# Altium footprint library ThroHole.PcbLib: 56 footprints (part 3 of 4)
Each footprint in its own frame and in the unit in brackets; x right, y up, seen from the top. Pads: shape width x height; smd on the part's side, far side on the other; paste and mask are expansions set on the pad; w line width, h text height; cw(c..) or ccw(c..) is an arc to the next point about the centre after c.
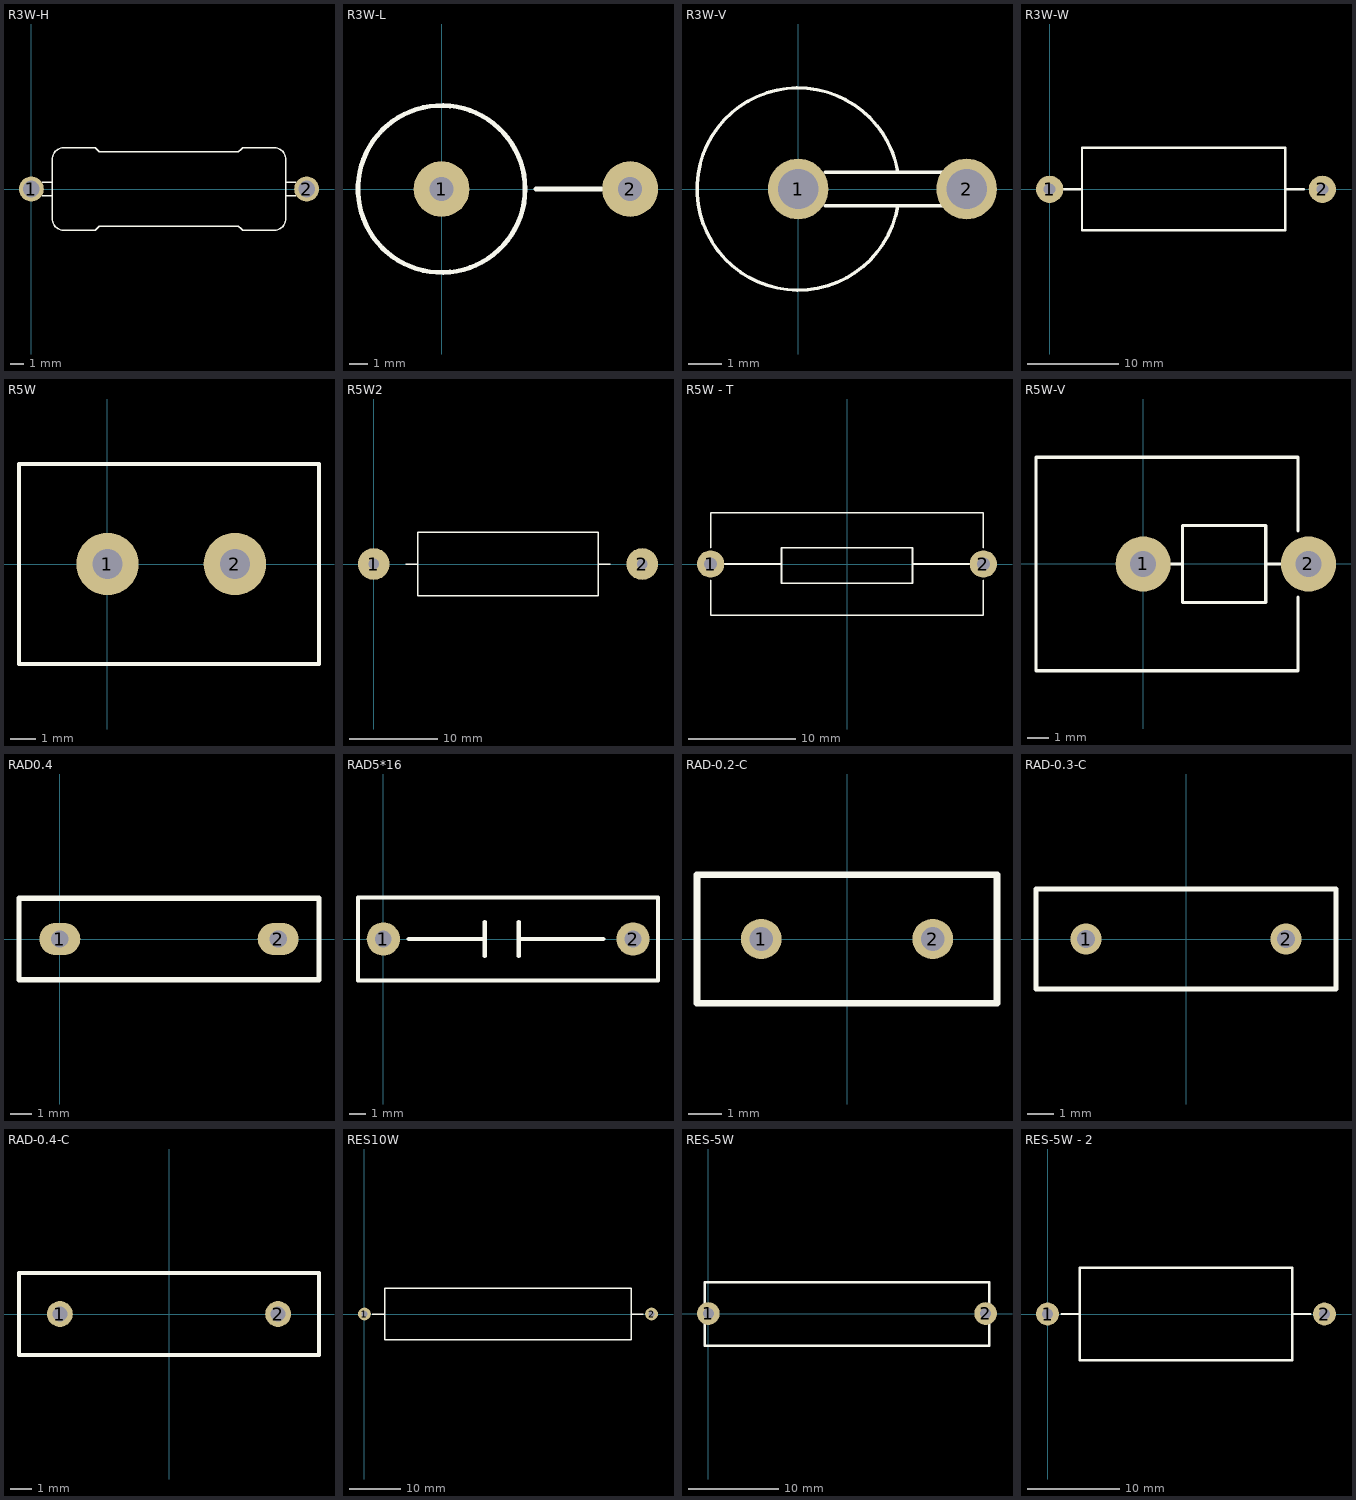
[diagram p2: the footprints below, top view; thin cyan lines are the x and y axes]

## R3W-H [mm]
pads (2):
  round 1.8 hole 1.2: 1(0,0) 2(20,0)
Top Overlay:
  lines w0.1: 0.8,-0.5 1.5,-0.5 ; 0.8,0.5 1.5,0.5 ; 4.58,3.001 cw(c4.58,2.848) 4.688,2.956 ; 4.643,-3.001 4.828,-2.816 4.908,-2.736 cw(c4.995,-2.823) 4.995,-2.7 14.995,-2.7 cw(c14.995,-2.823) 15.082,-2.736 15.162,-2.816 15.347,-3.001 ; 4.688,-2.956 cw(c4.58,-2.848) 4.58,-3.001 2.347,-3.001 cw(c2.369,-2.131) 1.499,-2.109 1.5,2.109 cw(c2.369,2.131) 2.347,3.001 4.643,3.001 4.828,2.816 4.908,2.736 ccw(c4.995,2.823) 4.995,2.7 14.995,2.7 ccw(c14.995,2.823) 15.082,2.736 15.162,2.816 15.347,3.001 ; 15.302,-2.956 ccw(c15.41,-2.848) 15.41,-3.001 17.651,-3.001 ; 15.302,2.956 cw(c15.41,2.848) 15.41,3.001 15.41,3 17.652,3 cw(c17.63,2.131) 18.5,2.109 18.5,-2.109 cw(c17.63,-2.131) 17.652,-3 ; 18.5,-0.5 19.2,-0.5 ; 18.5,0.5 19.2,0.5
3D body: height 12.3, standoff -2, extent -0.605,-3.3 20.595,3.3

## R3W-L [mm]
pads (2):
  round 3 hole 1.3: 1(0,0) 2(10.16,0)
Top Overlay:
  circle w0.254: c0,0 r4.5
  lines w0.254: 5.08,0 8.636,0

## R3W-V [mm]
pads (2):
  round 1.8 hole 1.2: 1(0,0) 2(5,0)
Top Overlay:
  lines w0.1: 0.8,0.5 4.3,0.5 ; 0.805,-0.5 4.3,-0.5 ; 2.955,0.521 ccw(c0,0) 2.958,-0.503
3D body: height 23.3, standoff -3.1, extent -3.302,-3.3 5.598,3.3

## R3W-W [mm]
pads (2):
  round 3 hole 1.3: 1(0,0) 2(30,0)
Top Overlay:
  lines w0.254: 1.524,0 3.556,0 ; 3.556,4.5 3.556,-4.5 25.908,-4.5 25.908,4.5 ; 3.556,4.572 25.908,4.572 ; 25.908,0 27.94,0

## R5W [mm]
pads (2):
  round 2.5 hole 1.2: 1(0,0) 2(5.1,0)
Top Overlay:
  lines w0.15: -3.54,-4 8.46,-4 8.46,4 -3.54,4 -3.54,-4

## R5W2 [mm]
pads (2):
  round 3.6 hole 1.2: 1(0,0) 2(30.48,0)
Top Overlay:
  lines w0.15: 3.6,0 4.975,0 ; 26.88,0 25.505,0 ; 4.975,0 4.975,-3.6 25.505,-3.6 25.505,0 ; 4.975,0 4.975,3.6 25.505,3.6 25.505,0
3D body: height 7.85, standoff -3.35, extent -0.4,-3.5 30.88,3.5

## R5W - T [mm]
pads (2):
  round 2.54 hole 1.2: 1(-12.7,0) 2(12.7,0)
Top Overlay:
  lines w0.15: -12.7,-1.524 -12.7,-4.776 12.7,-4.776 12.7,-1.524 ; -12.7,1.524 -12.7,4.776 12.7,4.776 12.7,1.524 ; -11.684,0 -6.096,0 ; 6.096,0 11.684,0 ; -6.096,-1.778 6.096,-1.778 6.096,1.524 0,1.524 -6.096,1.524 -6.096,-1.778
3D body: height 9.21, standoff -2.5, extent -13.2,-4.85 13.2,4.85

## R5W-V [mm]
pads (2):
  round 2.54 hole 1.2: 1(0,0) 2(7.62,0)
Top Overlay:
  lines w0.15: -4.941,1.524 -4.941,4.919 7.142,4.919 7.142,1.524 ; -4.941,1.566 -4.941,-4.919 7.142,-4.919 7.142,-1.524 ; 1.016,0 1.816,0 ; 5.648,0 6.794,0 ; 1.816,-1.778 1.816,1.778 5.648,1.778 5.648,-1.778 1.816,-1.778
3D body: height 23.05, standoff -2.4, extent -5.016,-5 8.064,5

## RAD0.4 [mm]
pads (2):
  oval 1.905x1.5 hole 0.813: 1(0,0) 2(10.16,0)
Top Overlay:
  lines w0.254: -1.905,-1.905 -1.905,1.905 12.065,1.905 12.065,-1.905 -1.905,-1.905
3D body: height 10.92, standoff -3, extent -1.219,-2.388 11.531,2.363

## RAD5*16 [mm]
pads (2):
  round 2 hole 1: 1(0,0) 2(15,0)
Top Overlay:
  lines w0.254: 1.524,0 6.096,0 ; 6.096,-1.016 6.096,0.508 6.096,1.016 ; 8.128,-1.016 8.128,0.508 8.128,1.016 ; 8.128,0 13.208,0 ; -1.524,-2.5 16.5,-2.5 16.5,2.5 -1.524,2.5 -1.524,-2.5

## RAD-0.2-C [mm] "Radial Cap, Thru-Hole; 2 Leads; 0.2 in Pin Spacing"
pads (2):
  round 1.2 hole 0.7: 1(-2.54,0) 2(2.54,0)
Top Overlay:
  lines w0.2: -4.445,-1.905 -4.445,1.905 4.445,1.905 4.445,-1.905 -4.445,-1.905
3D body: height 6.14, standoff -1.48, extent -2.794,-1.016 2.794,1.27

## RAD-0.3-C [mm] "Radial Cap, Thru-Hole; 2 Leads; 0.3 in Pin Spacing"
height 6
pads (2):
  round 1.2 hole 0.7: 1(-3.81,0) 2(3.81,0)
Top Overlay:
  lines w0.2: -5.715,-1.905 -5.715,1.905 5.715,1.905 5.715,-1.905 -5.715,-1.905
3D body: height 14.62, standoff -5.79, extent -6.377,-2.921 6.123,2.979

## RAD-0.4-C [mm] "Radial Cap, Thru-Hole; 2 Leads; 0.4 in Pin Spacing"
pads (2):
  round 1.2 hole 0.7: 1(-5.08,0) 2(5.08,0)
Top Overlay:
  lines w0.2: -6.985,-1.905 6.985,-1.905 6.985,1.905 -6.985,1.905 -6.985,-1.905
3D body: height 16.47, standoff -3.94, extent -6.25,-2.979 6.25,2.921

## RES10W [mm]
pads (2):
  round 2.5 hole 1.2: 1(0,0) 2(56,0)
Top Overlay:
  lines w0.254: 1.524,0 4,0 ; 52,0 54.356,0 ; 4,-5 4,5 52,5 52,-5 4,-5

## RES-5W [mm]
pads (2):
  round 2.5 hole 1.2: 1(0,0) 2(30.582,0)
Top Overlay:
  lines w0.254: -0.406,-3.556 -0.406,3.454 30.988,3.454 30.988,-3.556 -0.406,-3.556
3D body: height 9.35, standoff -1.85, extent -0.349,-3.52 30.931,3.48

## RES-5W - 2 [mm]
pads (2):
  round 2.5 hole 1.2: 1(0,0) 2(30,0)
Top Overlay:
  lines w0.254: 1.524,0 3.5,0 ; 26.5,0 28.448,0 ; 3.5,-5 3.5,5 26.5,5 26.5,-5 3.5,-5